# EAGLE library part 6405КП2 (library microwave)
АЕЯР.431000.685-01 ТУ 6405КП2У – монолитная интегральная микросхема однополюсного переключателя на два направления. Микросхема отличаются крайне низкой потребляемой мощностью. Разработана для построения симплексных приемопередатчиков, матриц переключателей для радио и сотовой связи, систем импульсно-кодовой модуляции (PCM), глобального позиционирования (GPS/ГЛОНАС) и портативных систем.
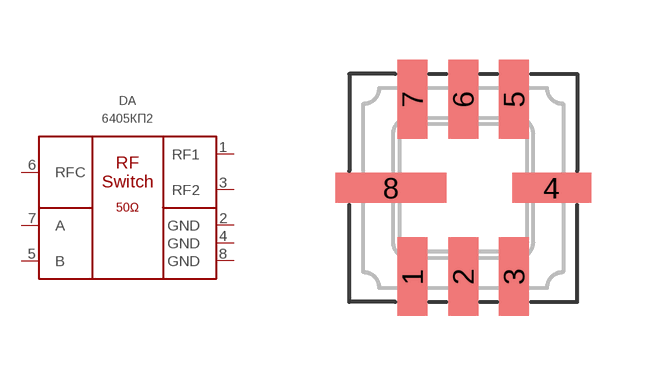
[diagram p2: symbol with the pads of QLCC_6/8-1; footprint QLCC_6/8-1]

Designator prefix DA

## 6405КП2У  [QLCC_6/8-1]
1  RF1
2  GND
3  RF2
4  GND
5  B
6  RFC
7  A
8  GND

## Footprint QLCC_6/8-1 (pad centres in mm)
smd 0.75 x 1.97: 1 -1.27,-2.215; 2 0,-2.215; 3 1.27,-2.215; 5 1.27,2.215; 6 0,2.215; 7 -1.27,2.215
smd 1.97 x 0.75: 4 2.215,0
smd 2.78 x 0.75: 8 -1.81,0